# EAGLE library part KIA6280H (library Audio-Power-amlifier V.2.0)
22W BTL AUDIO POWER AMPLIFIER.
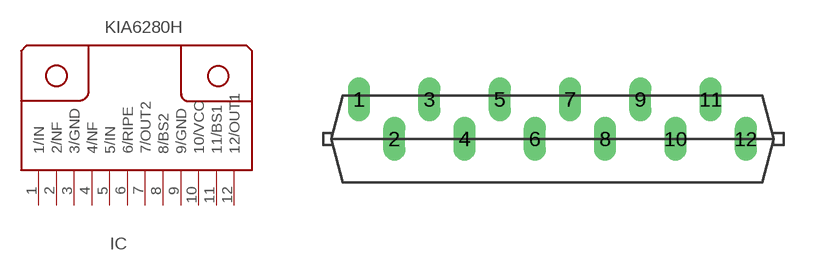
[diagram p78: symbol with the pads of HZIP12-P-1,78B; footprint HZIP12-P-1,78B]

Designator prefix IC

## KIA6280H  [HZIP12-P-1,78B]
1  1/IN  in
2  2/NF
3  3/GND  pwr
4  4/NF
5  5/IN  in
6  6/RIPE
7  7/OUT2  out
8  8/BS2
9  9/GND  pwr
10  10/VCC  pwr
11  11/BS1
12  12/OUT1  out

## Footprint HZIP12-P-1,78B (pad centres in mm)
drill 0.6 pad 1.016 long: 1 -9.779,2; 2 -8.001,0; 3 -6.223,2; 4 -4.445,0; 5 -2.667,2; 6 -0.889,0; 7 0.889,2; 8 2.667,0; 9 4.445,2; 10 6.223,0; 11 8.001,2; 12 9.779,0